# Altium schematic symbol library IND_XAL6030-222MEB.SchLib: 1 symbol
Pins are listed as number, name and electrical type; pins without a type are passive.

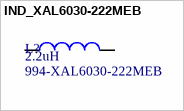
[diagram p0: symbol IND_XAL6030-222MEB]

## IND_XAL6030-222MEB
designator L?  value 2.2uH  Supplier Part Number 1: 994-XAL6030-222MEB
Inductor; Manufacturer: Coilcraft; Manufacturer Part Number: XAL6030-222MEB; Code_IEC: 1005; Description: Power inductor, shielded, 20% tol, SMT, RoHS, halogen f; Core Material: Composite; Tolerance: 20%; Self Resonant Frequency: 30MHz; Shielding: Shielded; Max DC Current: 10A; DC Resistance (DCR): 13.97mR; Test Frequency: 100kHz; Published: 8-Jun-2000; LatestRevisionDate: 29-May-2009; LatestRevisionNote: IPC-7351 Footprint Added.; PackageReference: 0402-A; Publisher: Altium Limited; PackageDescription: Chip Inductor; Code_JEITA: 0402; ComponentLink1Description: Supplier Link; ComponentLink1URL: https://www.mouser.ca/ProductDetail/Coilcraft/XAL6030-222MEB?qs=sGAEpiMZZMsg%252By3WlYCkU2kWFds1hA9DXj9xdKzQVV4%3D; Supplier 1: Mouser; Stock 1: 3253; Pricing 1: 1=1.85, 10=1.85, 50=1.85, 100=1.7, 400=1.28, 800=0.942, 1000=0.942, 2000=0.877, 10000=0.877 (USD); Min Operating Temperature: -40°C; Max Operating Temperature: 125°C; Packaging: Tape and Reel; Package Quantity: 20; Inductance: 2.2uH; Termination: SMD/SMT; Length: 6.76mm; Height: 3.1mm; Width: 6.56mm; Lead Free: Contains Lead
simulation model INDUCTOR (Inductor)
signal-integrity model Inductor
footprint XAL6030-222MEB
pins: 1, 2